# EAGLE library part 61001418221 (library Board_to_Board_Connectors_rev15d)
WR-PHD 2.54mm SMT Pin Header, 14 Pins =>Code : Con_BTB_PHD_2.54_1_SMT_61001418221 <http://katalog.we-online.de/media/images/eican/Con_BTB_PHD_2.54_1_SMT_6100xx18221_pf2.jpg> Details see: http://katalog.we-online.de/en/em/610_0xx_182_21 Created 2014-05-29, Karrer Zheng 2014 (C) Würth Elektronik
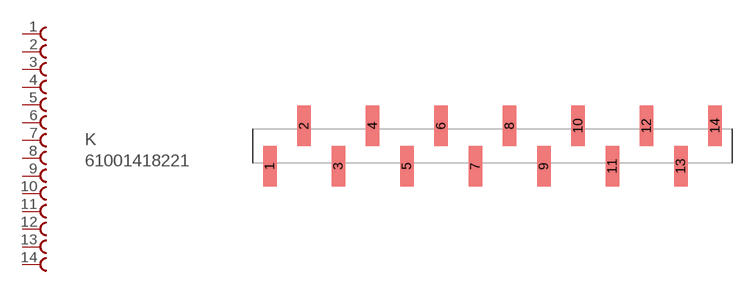
[diagram p63: symbol with the pads of 61001418221; footprint 61001418221]

Designator prefix K

## 61001418221  [61001418221]
1  1  pas
2  2  pas
3  3  pas
4  4  pas
5  5  pas
6  6  pas
7  7  pas
8  8  pas
9  9  pas
10  10  pas
11  11  pas
12  12  pas
13  13  pas
14  14  pas

## Footprint 61001418221 (pad centres in mm)
WR-PHD 2.54mm SMT Pin Header, 14 Pins
smd 1 x 3: 1 -12.7,-1.5; 2 -10.16,1.5; 3 -7.62,-1.5; 4 -5.08,1.5; 5 -2.54,-1.5; 6 0,1.5; 7 2.54,-1.5; 8 5.08,1.5; 9 7.62,-1.5; 10 10.16,1.5; 11 12.7,-1.5; 12 15.24,1.5; 13 17.78,-1.5; 14 20.32,1.5